# Altium schematic symbol library others.SchLib: 19 symbols
Pins are listed as number, name and electrical type; pins without a type are passive.

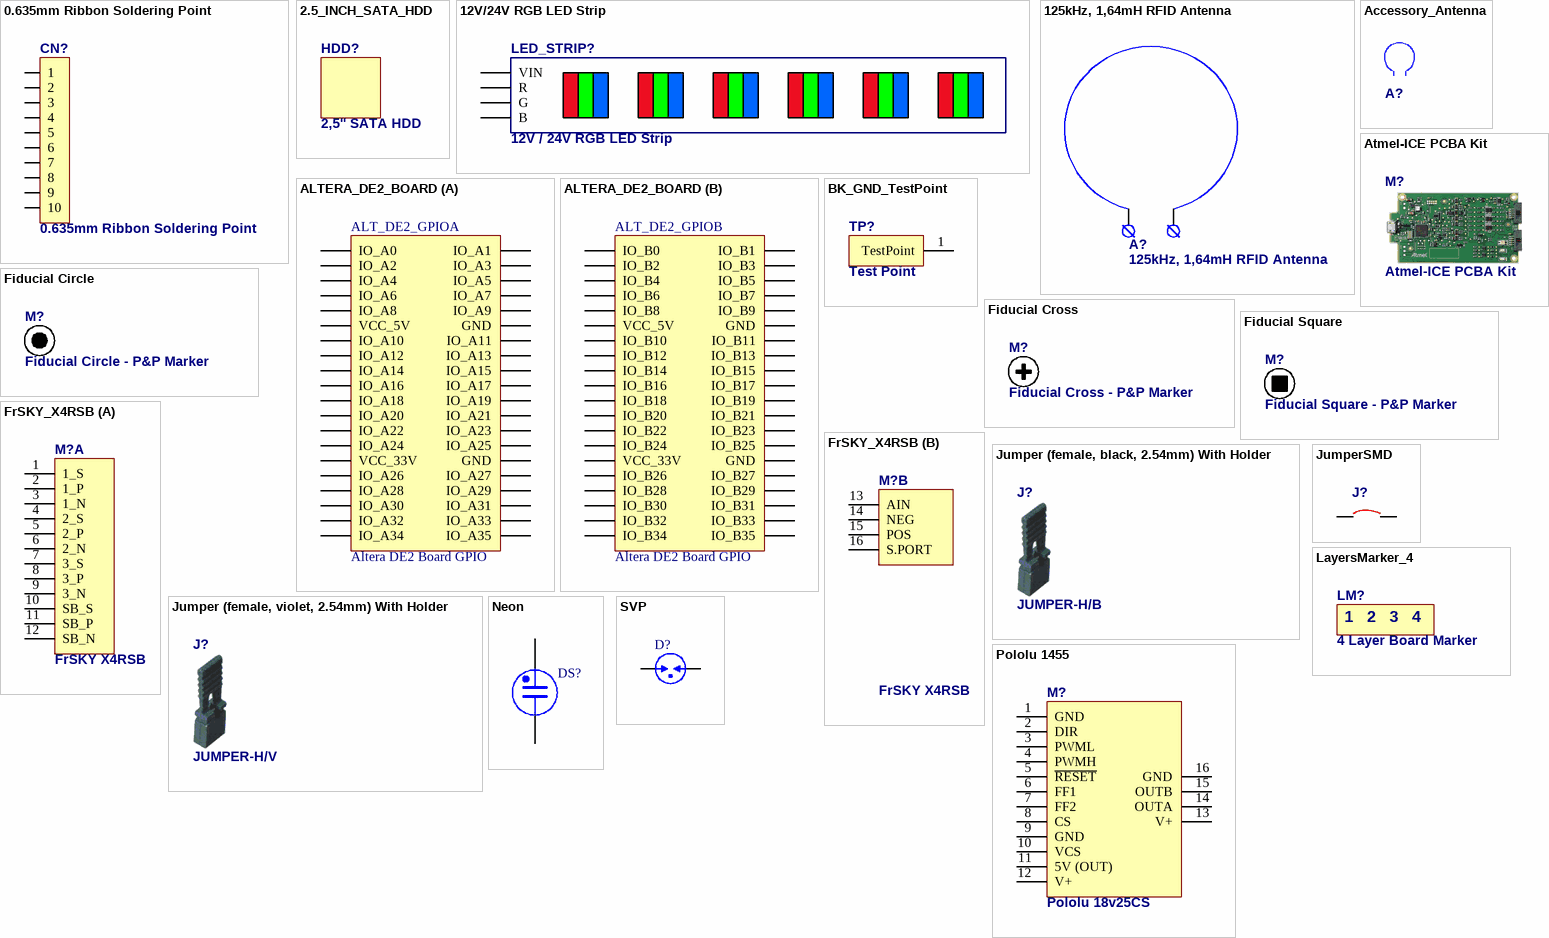
[diagram p0: symbols 0.635mm Ribbon Soldering Point to SVP]

## 0.635mm Ribbon Soldering Point
designator CN?  (no BOM)
footprint RIBBON_CABLE_0.635mm_SOLDERING
pins: 1, 2, 3, 4, 5, 6, 7, 8, 9, 10

## 2.5_INCH_SATA_HDD
designator HDD?, comment 2,5'' SATA HDD
footprint 2.5_INCH_SATA_HDD

## 12V/24V RGB LED Strip
designator LED_STRIP?, comment 12V / 24V RGB LED Strip  (mechanical)
pins: 1 VIN, 2 R, 3 G, 4 B

## 125kHz, 1,64mH RFID Antenna
designator A?  (mechanical)
pins: 0, 1

## Accessory_Antenna
designator A?  (value not drawn)  (mechanical)
125kHz, 1,64mH RFID Antenna

## ALTERA_DE2_BOARD
designator ALT_DE2_GPIO, comment Altera DE2 Board GPIO
Altera DE2 Board GPIO Expansion Headers
footprint AlteraDE2
part A pins: A1 IO_A0, A2 IO_A1, A3 IO_A2, A4 IO_A3, A5 IO_A4, A6 IO_A5, A7 IO_A6, A8 IO_A7, A9 IO_A8, A10 IO_A9, A11 VCC_5V, A12 GND, A13 IO_A10, A14 IO_A11, A15 IO_A12, A16 IO_A13, A17 IO_A14, A18 IO_A15, A19 IO_A16, A20 IO_A17, A21 IO_A18, A22 IO_A19, A23 IO_A20, A24 IO_A21, A25 IO_A22, A26 IO_A23, A27 IO_A24, A28 IO_A25, A29 VCC_33V, A30 GND, A31 IO_A26, A32 IO_A27, A33 IO_A28, A34 IO_A29, A35 IO_A30, A36 IO_A31, A37 IO_A32, A38 IO_A33, A39 IO_A34, A40 IO_A35
part B pins: B1 IO_B0, B2 IO_B1, B3 IO_B2, B4 IO_B3, B5 IO_B4, B6 IO_B5, B7 IO_B6, B8 IO_B7, B9 IO_B8, B10 IO_B9, B11 VCC_5V, B12 GND, B13 IO_B10, B14 IO_B11, B15 IO_B12, B16 IO_B13, B17 IO_B14, B18 IO_B15, B19 IO_B16, B20 IO_B17, B21 IO_B18, B22 IO_B19, B23 IO_B20, B24 IO_B21, B25 IO_B22, B26 IO_B23, B27 IO_B24, B28 IO_B25, B29 VCC_33V, B30 GND, B31 IO_B26, B32 IO_B27, B33 IO_B28, B34 IO_B29, B35 IO_B30, B36 IO_B31, B37 IO_B32, B38 IO_B33, B39 IO_B34, B40 IO_B35

## Atmel-ICE PCBA Kit
designator M?
footprint Atmel-ICE PCBA Kit

## BK_GND_TestPoint
designator TP?, comment Test Point  (no BOM)
pins: 1 TestPoint

## Fiducial Circle
designator M?, comment Fiducial Circle - P&P Marker  (no BOM)
Fiducial Circle - P&P Machine Marker
footprint P&P Marker 1 (SMD Pick&Place Machine Marker)

## Fiducial Cross
designator M?, comment Fiducial Cross - P&P Marker  (no BOM)
Fiducial Cross - P&P Machine Marker
footprint P&P Marker 2 (SMD Pick&Place Machine Marker)

## Fiducial Square
designator M?, comment Fiducial Square - P&P Marker  (no BOM)
Fiducial Square - P&P Machine Marker
footprint P&P Marker 3 (SMD Pick&Place Machine Marker)

## FrSKY_X4RSB
designator M?, comment FrSKY X4RSB
footprint FrSKY_X4RSB
part A pins: 1 1_S, 2 1_P, 3 1_N, 4 2_S, 5 2_P, 6 2_N, 7 3_S, 8 3_P, 9 3_N, 10 SB_S, 11 SB_P, 12 SB_N
part B pins: 13 AIN, 14 NEG, 15 POS, 16 S.PORT

## Jumper (female, black, 2.54mm) With Holder
designator J?, comment JUMPER-H/B  (mechanical)
Jumper (female, black, 2.54mm) With Holder; Published: 14-Sep-2006

## Jumper (female, violet, 2.54mm) With Holder
designator J?, comment JUMPER-H/V  (mechanical)
Jumper (female, violet 2.54mm) With Holder; Published: 14-Sep-2006

## JumperSMD
designator J?, comment Jumper  (value not drawn)
JumperSMD; Published: 14-Sep-2006
footprint JUMPERSMD2x2mm
pins: 1, 2

## LayersMarker_4
designator LM?, comment 4 Layer Board Marker  (no BOM)
Published: 14-Sep-2006
footprint 4LayerBoardMarker
text: 1; 2; 3; 4

## Neon
designator DS?
Neon Bulb; Published: 24-Mar-1999; Revision: July-2002: Re-released for DXP Platform.; Publisher: Altium Limited
footprint NEON_6mm
pins: 1, 2

## Pololu 1455
designator M?, comment Pololu 18v25CS
Pololu 18v25CS High-Power Driver
footprint POLOLU1455 (Pololu 18v25 CS High-Power Motor Driver)
pins: 1 GND, 2 DIR, 3 PWML, 4 PWMH, 5 ~{RESET}, 6 FF1, 7 FF2, 8 CS, 9 GND, 10 VCS, 11 5V (OUT), 12 V+, 13 V+, 14 OUTA, 15 OUTB, 16 GND

## SVP
designator D?
Surge Arrester; Published: 04-Apr-2006
pins: 1, 2